# Altium schematic symbol library Voltage regulators.SchLib: 10 symbols
Pins are listed as number, name and electrical type; pins without a type are passive.

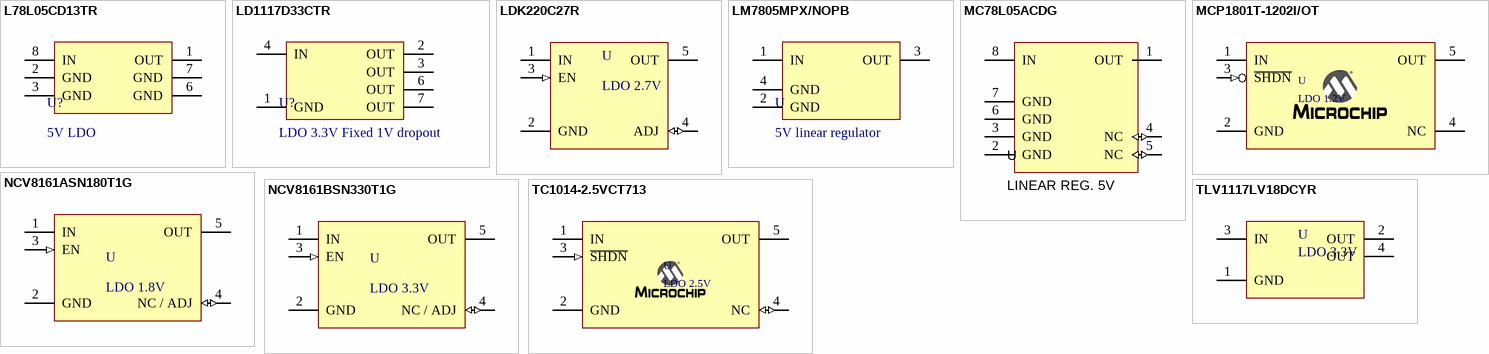
[diagram p0: symbols L78L05CD13TR to TLV1117LV18DCYR]

## L78L05CD13TR
designator U?, comment 5V LDO
Max. 30V to 5V fixed output LDO; Supplier Part Number 1: 497-7267-1-ND; Supplier 1: Digi-Key
footprint L78L05CD13TR (SOIC, 8-Leads, Body 4.90x3.90mm, Pitch 1.27mm, IPC Medium Density)
pins: 1 OUT (power), 2 GND (power), 3 GND (power), 6 GND (power), 7 GND (power), 8 IN (power)

## LD1117D33CTR
designator U?, comment LDO 3.3V Fixed 1V dropout
LDO 3.3V fixed output, 1V dropout, 1% stability; Supplier 1: Digi-Key; Supplier Part Number 1: 497-1230-1-ND
footprint LD1117D33CTR (SOIC, 8-Leads, Body 4.90x3.90mm, Pitch 1.27mm, IPC Medium Density)
pins: 1 GND (power), 2 OUT (power), 3 OUT (power), 4 IN (power), 6 OUT (power), 7 OUT (power)

## LDK220C27R
designator U, comment LDO 2.7V
LDO fixed 2.7V 200mA; Dropout voltage: 200mV; Supplier 1: Farnell; Supplier Part Number 1: 2435555; Output current: 200mA; Output voltage: 2.7V
footprint LDK220C27 (SOT23, 5-Leads, Body 2.95x2.80mm, Pitch 0.95mm, IPC Medium Density)
pins: 1 IN (power), 2 GND (power), 3 EN (in), 4 ADJ (io), 5 OUT (power)

## LM7805MPX/NOPB
designator U, comment 5V linear regulator
footprint LM7805MPX/NOPB (SOT223, 4-Leads, Body 6.50x7.00mm (avg), Pitch 2.30mm, IPC Medium Density)
pins: 1 IN (power), 2 GND (power), 3 OUT (power), 4 GND (power)

## MC78L05ACDG
designator U, comment LINEAR REG. 5V
Linear regulator 5V 100mA; Supplier 1: Farnell; Supplier Part Number 1: 9666265
footprint MC78L05ACDG (SOIC, 8-Leads, Body 4.90x3.90mm, Pitch 1.27mm, IPC Medium Density)
pins: 1 OUT (power), 2 GND (power), 3 GND (power), 4 NC (io), 5 NC (io), 6 GND (power), 7 GND (power), 8 IN (power)

## MCP1801T-1202I/OT
designator U, comment LDO 1.2V
LDO fixed 1.2V 150mA; Dropout voltage: 1.03V; Supplier 1: Farnell; Supplier Part Number 1: 1851980; Output current: 150mA; Output voltage: 1.2V
footprint MCP1801T-1202I/OT (SOT23, 5-Leads, Body 2,90x2,70mm, Pitch 0,95mm, IPC Medium Density)
pins: 1 IN (power), 2 GND (power), 3 ~{SHDN} (in), 4 NC, 5 OUT (power)

## NCV8161ASN180T1G
designator U, comment LDO 1.8V
LDO fixed 1.8V 450mA ultra-low noise; Dropout voltage: 200mV; Supplier 1: Farnell; Output voltage: 1.8V; Supplier Part Number 1: 2775471; Output current: 450mA
footprint SOT95P275X110-5N (SOT23, 5-Leads, Body 3.00x2.75mm, Pitch 0.95mm, IPC Medium Density)
pins: 1 IN (power), 2 GND (power), 3 EN (in), 4 NC / ADJ (io), 5 OUT (power)

## NCV8161BSN330T1G
designator U, comment LDO 3.3V
LDO fixed 3.3V 450mA ultra-low noise; RMS noise: < 100 uVrms; Dropout voltage: 330mV; Supplier Part Number 1: 2775470; Supplier 1: Farnell; Output voltage: 3.3V; Output current: 450mA
footprint NCV8161BSN330T1G (SOT23, 5-Leads, Body 3.00x2.75mm, Pitch 0.95mm, IPC Medium Density)
pins: 1 IN (power), 2 GND (power), 3 EN (in), 4 NC / ADJ (io), 5 OUT (power)

## TC1014-2.5VCT713
designator U, comment LDO 2.5V
LDO fixed 2.5V 50mA; Dropout voltage: 85mV; Output voltage: 2.7V; Supplier 1: Farnell; Supplier Part Number 1: 1439490; Output current: 50mA
footprint TC1014-2.5VCT713 (SOT23, 5-Leads, Body 2,90x2,70mm, Pitch 0,95mm, IPC Medium Density)
pins: 1 IN (power), 2 GND (power), 3 ~{SHDN} (in), 4 NC (io), 5 OUT (power)

## TLV1117LV18DCYR
designator U, comment LDO 3.3V
LDO adju. 3.3V 1000mA; Dropout voltage: 570mV; Output voltage: 2V to 5.5V; Output current: 1000mA; Supplier Part Number 1: 2492356; Supplier 1: Farnell
footprint TLV1117LV18DCY (SOT223)
pins: 1 GND (power), 2 OUT (power), 3 IN (power), 4 OUT (power)